# Altium schematic symbol library BUK6Y10-30P.SchLib: 1 symbol
Pins are listed as number, name and electrical type; pins without a type are passive.

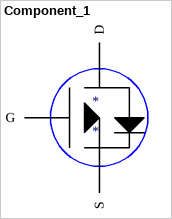
[diagram p0: symbol Component_1]

## Component_1
designator *
footprint TO127P600X120-5N
pins: 1 S, 4 G, 5 D